# EAGLE library part 4-WAY-BIG-CAGE (library farnell-parts)
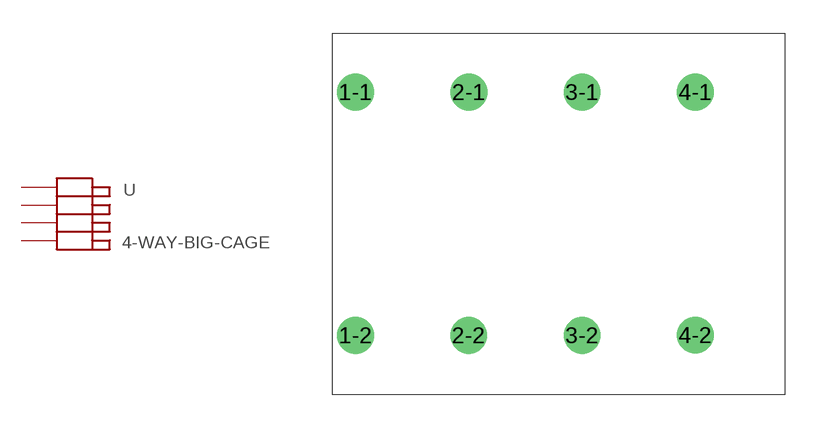
[diagram p6: symbol with the pads of 4W-BIG-CC; footprint 4W-BIG-CC]

Designator prefix -

## 4-WAY-BIG-CAGE  [4W-BIG-CC]
1-1  1-1  pas
1-2  1-2  pas
2-1  2-1  pas
2-2  2-2  pas
3-1  3-1  pas
3-2  3-2  pas
4-1  4-1  pas
4-2  4-2  pas

## Footprint 4W-BIG-CC (pad centres in mm)
drill 1.1: 1-1 -8.86,5.04; 1-2 -8.85,-5.88; 2-1 -3.77,5.04; 2-2 -3.78,-5.88; 3-1 1.31,5.04; 3-2 1.31,-5.88; 4-1 6.39,5.04; 4-2 6.39,-5.87